# EAGLE library part SWD_0171_PH127-205DF055G00A (library mullac)
2x5 Header 1,27
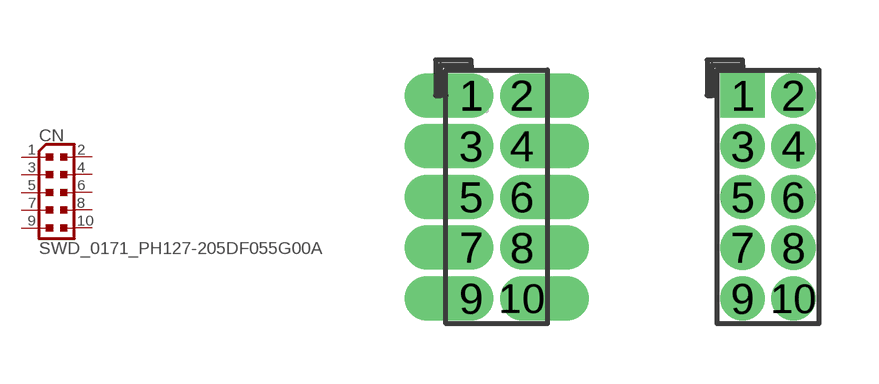
[diagram p4: symbol with the pads of SWD_PINHEAD-2X5-P127; footprints SWD_PINHEAD-2X5-P127, SWD_PINHEAD_2X05_127]

Designator prefix CN

## SWD_0171_PH127-205DF055G00A (PART_NUMBER: PH127-205DF055G00A; VALUE: PINHEAD-2x5-P1.27)  [SWD_PINHEAD-2X5-P127]
1  1  pas
2  2  pas
3  3  pas
4  4  pas
5  5  pas
6  6  pas
7  7  pas
8  8  pas
9  9  pas
10  10  pas

## SWD_0171_PH127-205DF055G00AROUND-PADS  [SWD_PINHEAD_2X05_127]
Pads as for SWD_PINHEAD-2X5-P127

## Footprint SWD_PINHEAD-2X5-P127 (pad centres in mm)
drill 0.61 pad 1.016 offset: 1 -0.635,2.54; 2 0.635,2.54; 3 -0.635,1.27; 4 0.635,1.27; 5 -0.635,0; 6 0.635,0; 7 -0.635,-1.27; 8 0.635,-1.27; 9 -0.635,-2.54; 10 0.635,-2.54

## Footprint SWD_PINHEAD_2X05_127 (pad centres in mm)
drill 0.6 pad 1.016 square: 1 -0.635,2.54
drill 0.6 pad 1.016: 2 0.635,2.54; 3 -0.635,1.27; 4 0.635,1.27; 5 -0.635,0; 6 0.635,0; 7 -0.635,-1.27; 8 0.635,-1.27; 9 -0.635,-2.54; 10 0.635,-2.54